# Altium schematic symbol library NUVOTON_NUC505_LIBRARY_Library.SchLib: 5 symbols
Pins are listed as number, name and electrical type; pins without a type are passive.

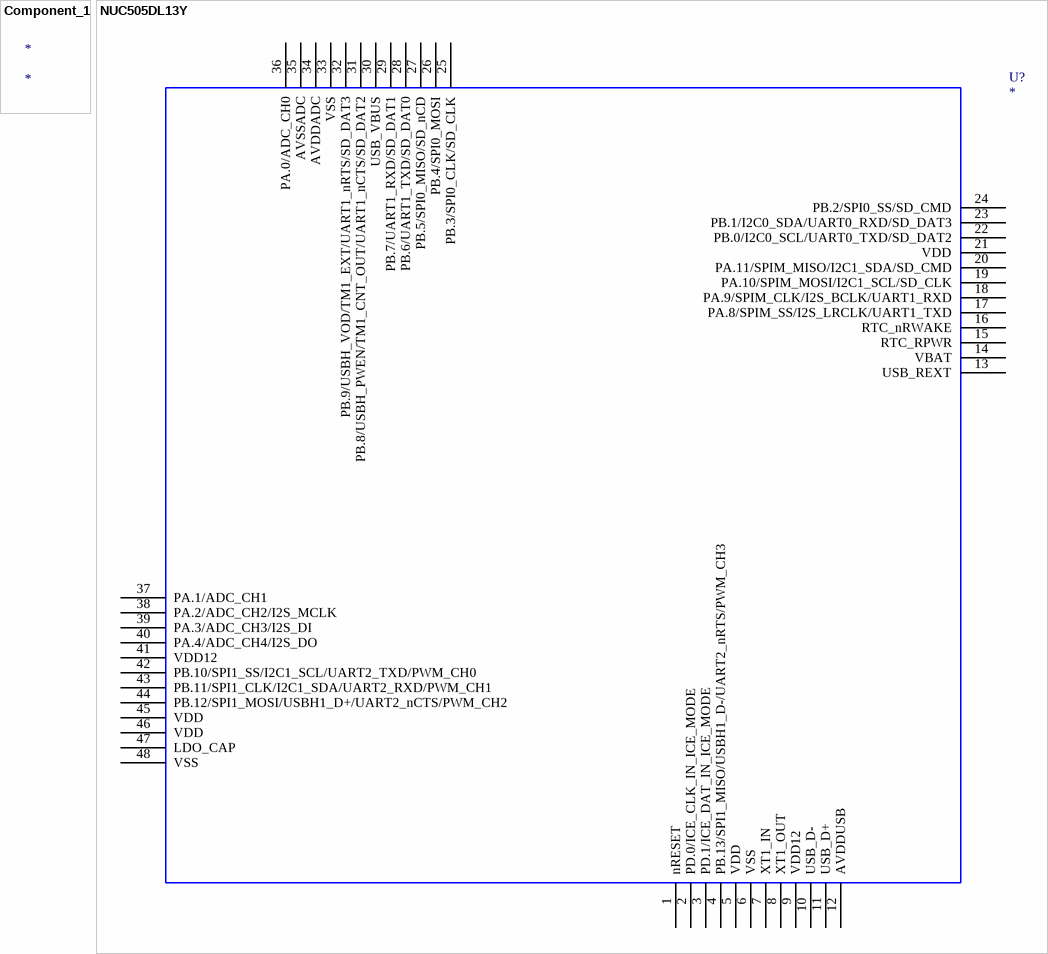
[diagram p0: symbols Component_1 to NUC505DL13Y]

## Component_1
designator *

## NUC505DL13Y
designator U?
OriginalSymbolOrigin: (0,0)
footprint MCU_LQFP_48
pins: 1 nRESET, 2 PD.0/ICE_CLK_IN_ICE_MODE, 3 PD.1/ICE_DAT_IN_ICE_MODE, 4 PB.13/SPI1_MISO/USBH1_D-/UART2_nRTS/PWM_CH3, 5 VDD, 6 VSS, 7 XT1_IN, 8 XT1_OUT, 9 VDD12, 10 USB_D-, 11 USB_D+, 12 AVDDUSB, 13 USB_REXT, 14 VBAT, 15 RTC_RPWR, 16 RTC_nRWAKE, 17 PA.8/SPIM_SS/I2S_LRCLK/UART1_TXD, 18 PA.9/SPIM_CLK/I2S_BCLK/UART1_RXD, 19 PA.10/SPIM_MOSI/I2C1_SCL/SD_CLK, 20 PA.11/SPIM_MISO/I2C1_SDA/SD_CMD, 21 VDD, 22 PB.0/I2C0_SCL/UART0_TXD/SD_DAT2, 23 PB.1/I2C0_SDA/UART0_RXD/SD_DAT3, 24 PB.2/SPI0_SS/SD_CMD, 25 PB.3/SPI0_CLK/SD_CLK, 26 PB.4/SPI0_MOSI, 27 PB.5/SPI0_MISO/SD_nCD, 28 PB.6/UART1_TXD/SD_DAT0, 29 PB.7/UART1_RXD/SD_DAT1, 30 USB_VBUS, 31 PB.8/USBH_PWEN/TM1_CNT_OUT/UART1_nCTS/SD_DAT2, 32 PB.9/USBH_VOD/TM1_EXT/UART1_nRTS/SD_DAT3, 33 VSS, 34 AVDDADC, 35 AVSSADC, 36 PA.0/ADC_CH0, 37 PA.1/ADC_CH1, 38 PA.2/ADC_CH2/I2S_MCLK, 39 PA.3/ADC_CH3/I2S_DI, 40 PA.4/ADC_CH4/I2S_DO, 41 VDD12, 42 PB.10/SPI1_SS/I2C1_SCL/UART2_TXD/PWM_CH0, 43 PB.11/SPI1_CLK/I2C1_SDA/UART2_RXD/PWM_CH1, 44 PB.12/SPI1_MOSI/USBH1_D+/UART2_nCTS/PWM_CH2, 45 VDD, 46 VDD, 47 LDO_CAP, 48 VSS

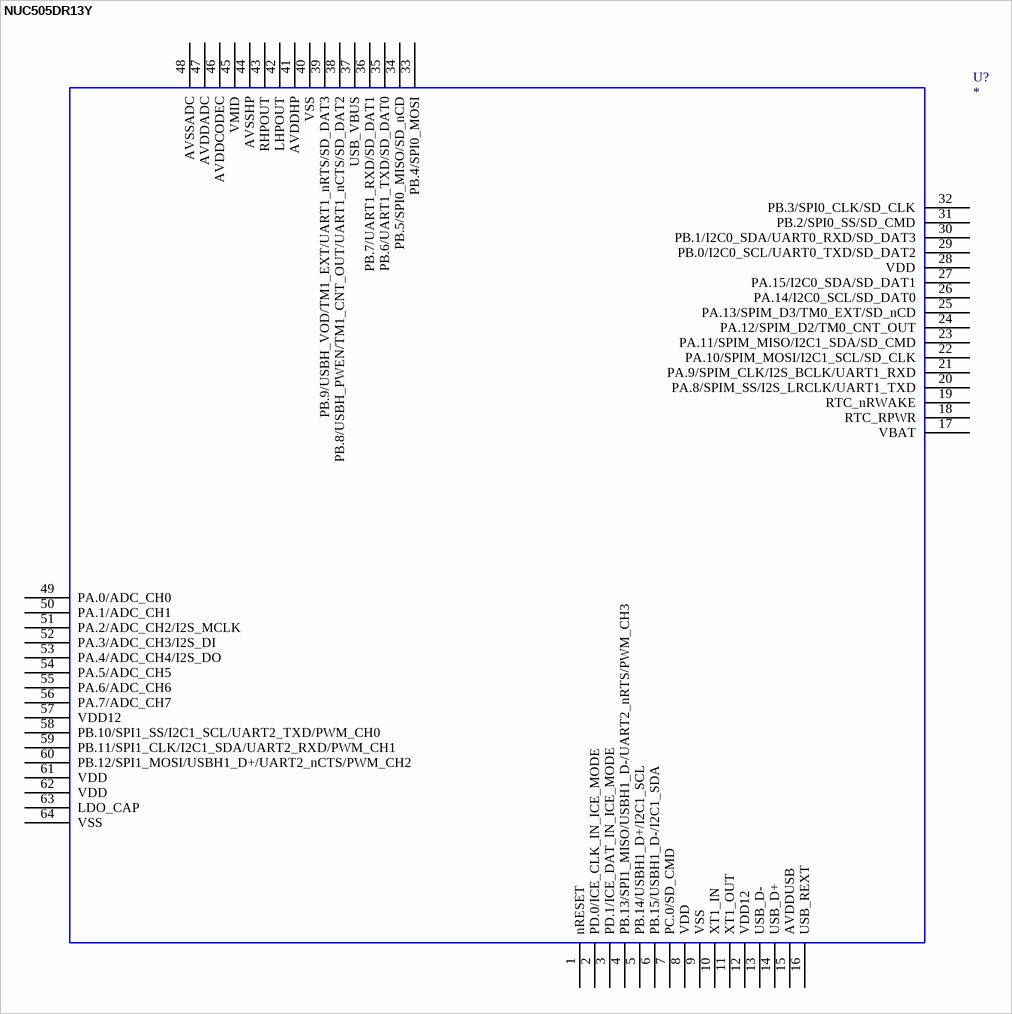
[diagram p1: symbol NUC505DR13Y]

## NUC505DR13Y
designator U?
OriginalSymbolOrigin: (0,0)
footprint MCU_LQFP_64_10x10
pins: 1 nRESET, 2 PD.0/ICE_CLK_IN_ICE_MODE, 3 PD.1/ICE_DAT_IN_ICE_MODE, 4 PB.13/SPI1_MISO/USBH1_D-/UART2_nRTS/PWM_CH3, 5 PB.14/USBH1_D+/I2C1_SCL, 6 PB.15/USBH1_D-/I2C1_SDA, 7 PC.0/SD_CMD, 8 VDD, 9 VSS, 10 XT1_IN, 11 XT1_OUT, 12 VDD12, 13 USB_D-, 14 USB_D+, 15 AVDDUSB, 16 USB_REXT, 17 VBAT, 18 RTC_RPWR, 19 RTC_nRWAKE, 20 PA.8/SPIM_SS/I2S_LRCLK/UART1_TXD, 21 PA.9/SPIM_CLK/I2S_BCLK/UART1_RXD, 22 PA.10/SPIM_MOSI/I2C1_SCL/SD_CLK, 23 PA.11/SPIM_MISO/I2C1_SDA/SD_CMD, 24 PA.12/SPIM_D2/TM0_CNT_OUT, 25 PA.13/SPIM_D3/TM0_EXT/SD_nCD, 26 PA.14/I2C0_SCL/SD_DAT0, 27 PA.15/I2C0_SDA/SD_DAT1, 28 VDD, 29 PB.0/I2C0_SCL/UART0_TXD/SD_DAT2, 30 PB.1/I2C0_SDA/UART0_RXD/SD_DAT3, 31 PB.2/SPI0_SS/SD_CMD, 32 PB.3/SPI0_CLK/SD_CLK, 33 PB.4/SPI0_MOSI, 34 PB.5/SPI0_MISO/SD_nCD, 35 PB.6/UART1_TXD/SD_DAT0, 36 PB.7/UART1_RXD/SD_DAT1, 37 USB_VBUS, 38 PB.8/USBH_PWEN/TM1_CNT_OUT/UART1_nCTS/SD_DAT2, 39 PB.9/USBH_VOD/TM1_EXT/UART1_nRTS/SD_DAT3, 40 VSS, 41 AVDDHP, 42 LHPOUT, 43 RHPOUT, 44 AVSSHP, 45 VMID, 46 AVDDCODEC, 47 AVDDADC, 48 AVSSADC, 49 PA.0/ADC_CH0, 50 PA.1/ADC_CH1, 51 PA.2/ADC_CH2/I2S_MCLK, 52 PA.3/ADC_CH3/I2S_DI, 53 PA.4/ADC_CH4/I2S_DO, 54 PA.5/ADC_CH5, 55 PA.6/ADC_CH6, 56 PA.7/ADC_CH7, 57 VDD12, 58 PB.10/SPI1_SS/I2C1_SCL/UART2_TXD/PWM_CH0, 59 PB.11/SPI1_CLK/I2C1_SDA/UART2_RXD/PWM_CH1, 60 PB.12/SPI1_MOSI/USBH1_D+/UART2_nCTS/PWM_CH2, 61 VDD, 62 VDD, 63 LDO_CAP, 64 VSS

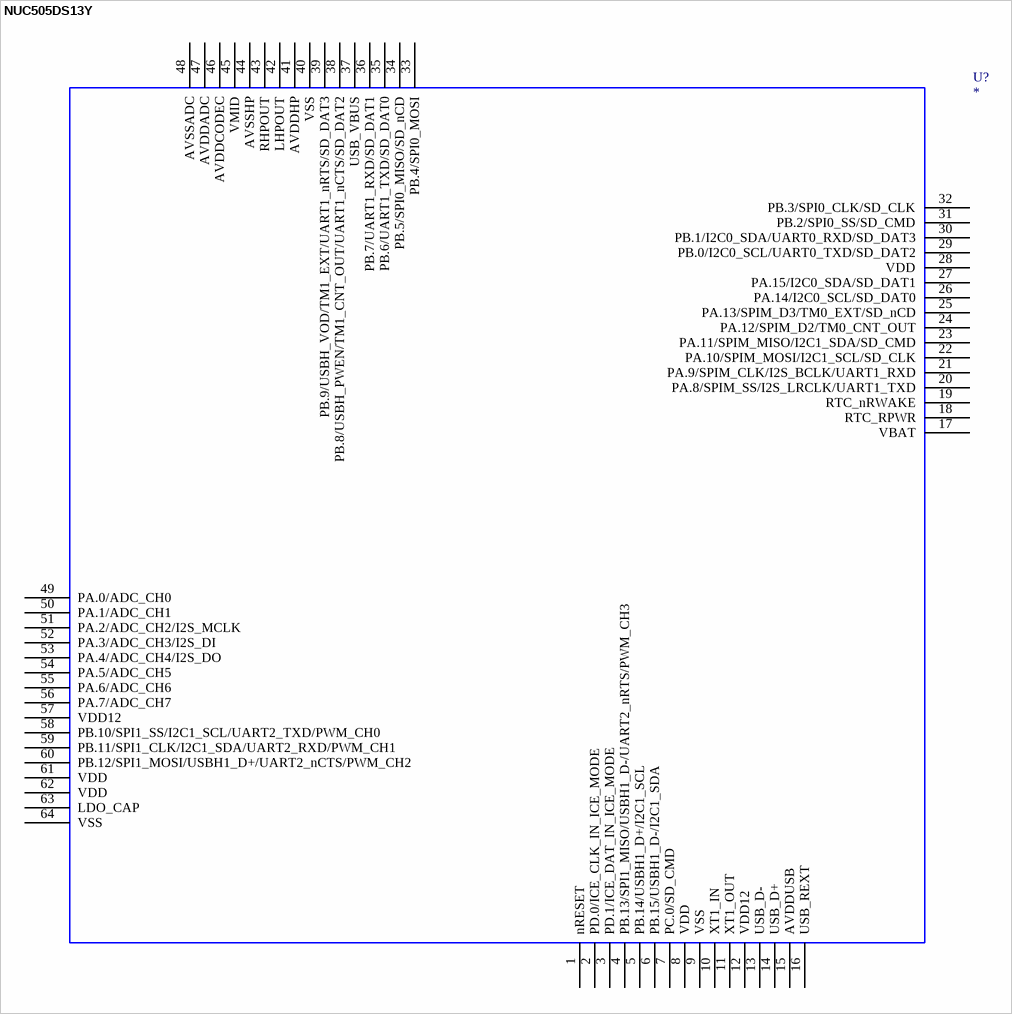
[diagram p2: symbol NUC505DS13Y]

## NUC505DS13Y
designator U?
OriginalSymbolOrigin: (0,0)
footprint MCU_LQFP_64_7x7
pins: 1 nRESET, 2 PD.0/ICE_CLK_IN_ICE_MODE, 3 PD.1/ICE_DAT_IN_ICE_MODE, 4 PB.13/SPI1_MISO/USBH1_D-/UART2_nRTS/PWM_CH3, 5 PB.14/USBH1_D+/I2C1_SCL, 6 PB.15/USBH1_D-/I2C1_SDA, 7 PC.0/SD_CMD, 8 VDD, 9 VSS, 10 XT1_IN, 11 XT1_OUT, 12 VDD12, 13 USB_D-, 14 USB_D+, 15 AVDDUSB, 16 USB_REXT, 17 VBAT, 18 RTC_RPWR, 19 RTC_nRWAKE, 20 PA.8/SPIM_SS/I2S_LRCLK/UART1_TXD, 21 PA.9/SPIM_CLK/I2S_BCLK/UART1_RXD, 22 PA.10/SPIM_MOSI/I2C1_SCL/SD_CLK, 23 PA.11/SPIM_MISO/I2C1_SDA/SD_CMD, 24 PA.12/SPIM_D2/TM0_CNT_OUT, 25 PA.13/SPIM_D3/TM0_EXT/SD_nCD, 26 PA.14/I2C0_SCL/SD_DAT0, 27 PA.15/I2C0_SDA/SD_DAT1, 28 VDD, 29 PB.0/I2C0_SCL/UART0_TXD/SD_DAT2, 30 PB.1/I2C0_SDA/UART0_RXD/SD_DAT3, 31 PB.2/SPI0_SS/SD_CMD, 32 PB.3/SPI0_CLK/SD_CLK, 33 PB.4/SPI0_MOSI, 34 PB.5/SPI0_MISO/SD_nCD, 35 PB.6/UART1_TXD/SD_DAT0, 36 PB.7/UART1_RXD/SD_DAT1, 37 USB_VBUS, 38 PB.8/USBH_PWEN/TM1_CNT_OUT/UART1_nCTS/SD_DAT2, 39 PB.9/USBH_VOD/TM1_EXT/UART1_nRTS/SD_DAT3, 40 VSS, 41 AVDDHP, 42 LHPOUT, 43 RHPOUT, 44 AVSSHP, 45 VMID, 46 AVDDCODEC, 47 AVDDADC, 48 AVSSADC, 49 PA.0/ADC_CH0, 50 PA.1/ADC_CH1, 51 PA.2/ADC_CH2/I2S_MCLK, 52 PA.3/ADC_CH3/I2S_DI, 53 PA.4/ADC_CH4/I2S_DO, 54 PA.5/ADC_CH5, 55 PA.6/ADC_CH6, 56 PA.7/ADC_CH7, 57 VDD12, 58 PB.10/SPI1_SS/I2C1_SCL/UART2_TXD/PWM_CH0, 59 PB.11/SPI1_CLK/I2C1_SDA/UART2_RXD/PWM_CH1, 60 PB.12/SPI1_MOSI/USBH1_D+/UART2_nCTS/PWM_CH2, 61 VDD, 62 VDD, 63 LDO_CAP, 64 VSS

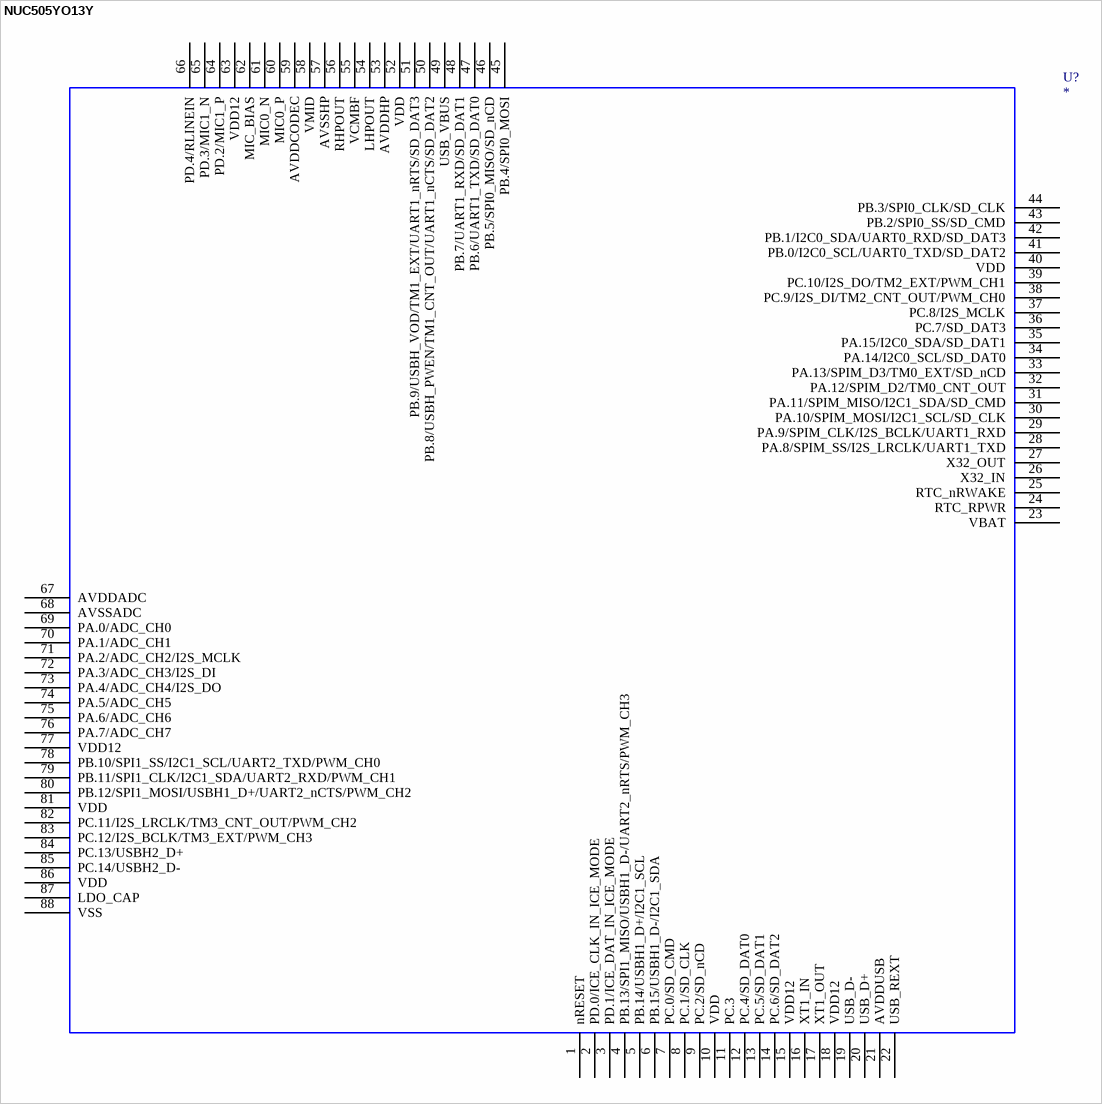
[diagram p3: symbol NUC505YO13Y]

## NUC505YO13Y
designator U?
OriginalSymbolOrigin: (0,0)
footprint MCU_QFN_88
pins: 1 nRESET, 2 PD.0/ICE_CLK_IN_ICE_MODE, 3 PD.1/ICE_DAT_IN_ICE_MODE, 4 PB.13/SPI1_MISO/USBH1_D-/UART2_nRTS/PWM_CH3, 5 PB.14/USBH1_D+/I2C1_SCL, 6 PB.15/USBH1_D-/I2C1_SDA, 7 PC.0/SD_CMD, 8 PC.1/SD_CLK, 9 PC.2/SD_nCD, 10 VDD, 11 PC.3, 12 PC.4/SD_DAT0, 13 PC.5/SD_DAT1, 14 PC.6/SD_DAT2, 15 VDD12, 16 XT1_IN, 17 XT1_OUT, 18 VDD12, 19 USB_D-, 20 USB_D+, 21 AVDDUSB, 22 USB_REXT, 23 VBAT, 24 RTC_RPWR, 25 RTC_nRWAKE, 26 X32_IN, 27 X32_OUT, 28 PA.8/SPIM_SS/I2S_LRCLK/UART1_TXD, 29 PA.9/SPIM_CLK/I2S_BCLK/UART1_RXD, 30 PA.10/SPIM_MOSI/I2C1_SCL/SD_CLK, 31 PA.11/SPIM_MISO/I2C1_SDA/SD_CMD, 32 PA.12/SPIM_D2/TM0_CNT_OUT, 33 PA.13/SPIM_D3/TM0_EXT/SD_nCD, 34 PA.14/I2C0_SCL/SD_DAT0, 35 PA.15/I2C0_SDA/SD_DAT1, 36 PC.7/SD_DAT3, 37 PC.8/I2S_MCLK, 38 PC.9/I2S_DI/TM2_CNT_OUT/PWM_CH0, 39 PC.10/I2S_DO/TM2_EXT/PWM_CH1, 40 VDD, 41 PB.0/I2C0_SCL/UART0_TXD/SD_DAT2, 42 PB.1/I2C0_SDA/UART0_RXD/SD_DAT3, 43 PB.2/SPI0_SS/SD_CMD, 44 PB.3/SPI0_CLK/SD_CLK, 45 PB.4/SPI0_MOSI, 46 PB.5/SPI0_MISO/SD_nCD, 47 PB.6/UART1_TXD/SD_DAT0, 48 PB.7/UART1_RXD/SD_DAT1, 49 USB_VBUS, 50 PB.8/USBH_PWEN/TM1_CNT_OUT/UART1_nCTS/SD_DAT2, 51 PB.9/USBH_VOD/TM1_EXT/UART1_nRTS/SD_DAT3, 52 VDD, 53 AVDDHP, 54 LHPOUT, 55 VCMBF, 56 RHPOUT, 57 AVSSHP, 58 VMID, 59 AVDDCODEC, 60 MIC0_P, 61 MIC0_N, 62 MIC_BIAS, 63 VDD12, 64 PD.2/MIC1_P, 65 PD.3/MIC1_N, 66 PD.4/RLINEIN, 67 AVDDADC, 68 AVSSADC, 69 PA.0/ADC_CH0, 70 PA.1/ADC_CH1, 71 PA.2/ADC_CH2/I2S_MCLK, 72 PA.3/ADC_CH3/I2S_DI, 73 PA.4/ADC_CH4/I2S_DO, 74 PA.5/ADC_CH5, 75 PA.6/ADC_CH6, 76 PA.7/ADC_CH7, 77 VDD12, 78 PB.10/SPI1_SS/I2C1_SCL/UART2_TXD/PWM_CH0, 79 PB.11/SPI1_CLK/I2C1_SDA/UART2_RXD/PWM_CH1, 80 PB.12/SPI1_MOSI/USBH1_D+/UART2_nCTS/PWM_CH2, 81 VDD, 82 PC.11/I2S_LRCLK/TM3_CNT_OUT/PWM_CH2, 83 PC.12/I2S_BCLK/TM3_EXT/PWM_CH3, 84 PC.13/USBH2_D+, 85 PC.14/USBH2_D-, 86 VDD, 87 LDO_CAP, 88 VSS